# EAGLE library part QPIFLASH (library kiks-ic)
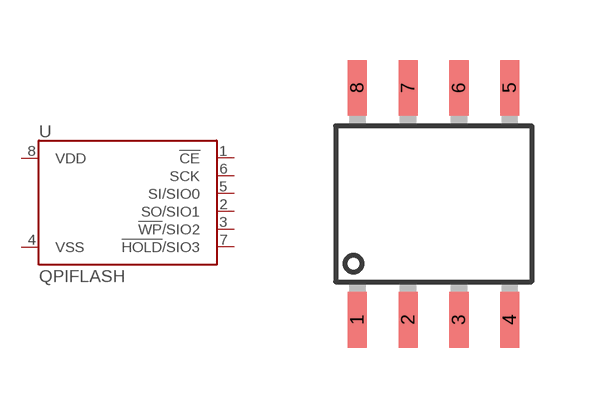
[diagram p15: symbol with the pads of SOP8; footprint SOP8]

Designator prefix U

## QPIFLASH  [SOP8]
1  !CE  in
2  SO/SIO1
3  !WP!/SIO2
4  VSS
5  SI/SIO0
6  SCK  in
7  !HOLD!/SIO3
8  VDD

## Footprint SOP8 (pad centres in mm)
smd 0.48 x 1.4: 1 -1.905,-2.9; 2 -0.635,-2.9; 3 0.635,-2.9; 4 1.905,-2.9; 5 1.905,2.9; 6 0.635,2.9; 7 -0.635,2.9; 8 -1.905,2.9